# EAGLE library part TLV61225 (library tps6122x)
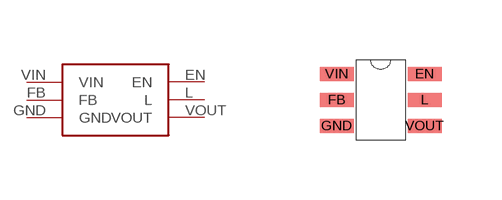
[diagram p0: symbol with the pads of SC70; footprint SC70]

Designator prefix -

## TLV61225  [SC70]
EN  EN
FB  FB
GND  GND
L  L
VIN  VIN
VOUT  VOUT

## Footprint SC70 (pad centres in mm)
smd 0.85 x 0.35: EN 1.1,0.65; FB -1.1,0; GND -1.1,-0.65; L 1.1,0; VIN -1.1,0.65; VOUT 1.1,-0.65